# Altium schematic symbol library PowerSelector.SchLib: 1 symbol
Pins are listed as number, name and electrical type; pins without a type are passive.

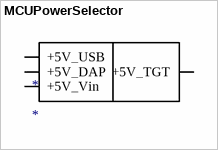
[diagram p0: symbol MCUPowerSelector]

## MCUPowerSelector
designator *
footprint PowerSelector (T-shaped selector for choosing the target MCU power source.)
pins: 1 +5V_TGT, 2 +5V_USB, 3 +5V_DAP, 4 +5V_Vin